# EAGLE library part IC_MEM_24AA* (library dp_devices)
I2C EEPROM
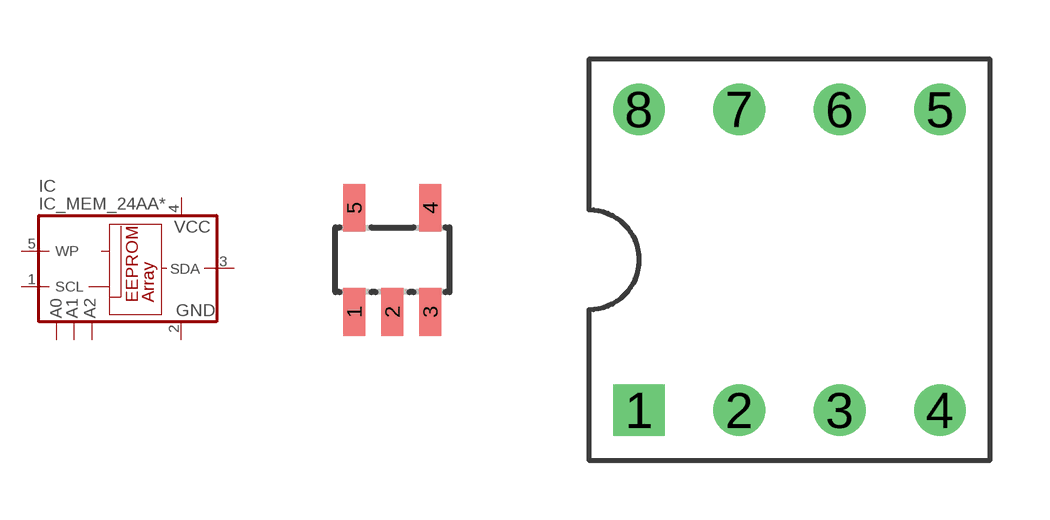
[diagram p53: symbol with the pads of SOT-23-5; footprints SOT-23-5, DIP8]

Designator prefix IC

## IC_MEM_24AA-SOT23-5 (24AA: 24AA)  [SOT-23-5]
1  SCL  in
2  GND  pwr
3  SDA
4  VCC  pwr
5  WP  in

## IC_MEM_24AA-DIP8  [DIP8]
1  A0  in
2  A1  in
3  A2  in
4  GND  pwr
5  SDA
6  SCL  in
7  WP  in
8  VCC  pwr

## Footprint SOT-23-5 (pad centres in mm)
smd 0.55 x 1.2: 1 -0.95,-1.3; 2 0,-1.3; 3 0.95,-1.3; 4 0.95,1.3; 5 -0.95,1.3

## Footprint DIP8 (pad centres in mm)
drill 0.8 square: 1 -3.81,-3.81
drill 0.8 round: 2 -1.27,-3.81; 3 1.27,-3.81; 4 3.81,-3.81; 5 3.81,3.81; 6 1.27,3.81; 7 -1.27,3.81; 8 -3.81,3.81